# EAGLE library part MICRO_USB_B (library ERNW_parts)
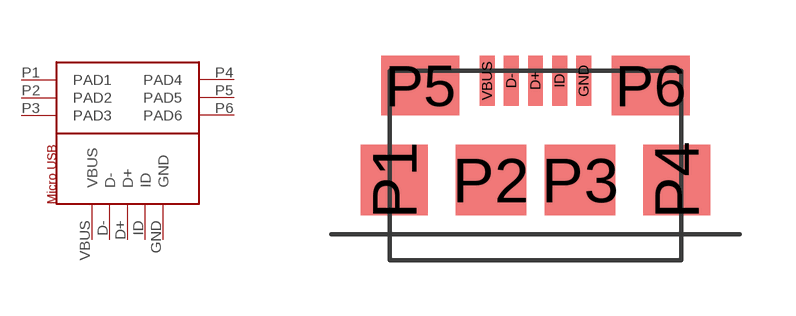
[diagram p4: symbol with the pads of MICRO_USB_B; footprint MICRO_USB_B]

Designator prefix -

## MICRO_USB_B  [MICRO_USB_B]
D+  D+
D-  D-
GND  GND
ID  ID
P1  PAD1
P2  PAD2
P3  PAD3
P4  PAD4
P5  PAD5
P6  PAD6
VBUS  VBUS

## Footprint MICRO_USB_B (pad centres in mm)
smd 0.4 x 1.35: D+ 0,2.675; D- -0.65,2.675; GND 1.3,2.675; ID 0.65,2.675; VBUS -1.3,2.675
smd 1.8 x 1.9: P1 -3.8,0; P4 3.8,0
smd 1.9 x 1.9: P2 -1.2,0; P3 1.2,0
smd 2.1 x 1.6: P5 -3.1,2.55; P6 3.1,2.55